# Altium schematic symbol library IR_Vcsels.SchLib: 2 symbols
Pins are listed as number, name and electrical type; pins without a type are passive.

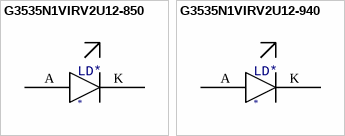
[diagram p0: symbols G3535N1VIRV2U12-850 to G3535N1VIRV2U12-940]

## G3535N1VIRV2U12-850
designator LD*
footprint 3535VIR
pins: A Anode, K Cathode

## G3535N1VIRV2U12-940
designator LD*
footprint 3535VIR
pins: A Anode, K Cathode